# Altium schematic symbol library FERRITE BEAD CHIP.SchLib: 1 symbol
Pins are listed as number, name and electrical type; pins without a type are passive.

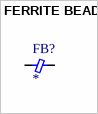
[diagram p0: symbol FERRITE BEAD]

## FERRITE BEAD
designator FB?
Manufacturer: *; Manufacturer Part: *; Value: *; Package: *; ComponentLink1Description: Datasheet; ComponentLink1URL: https://www.murata.com/products/productdata/8796738650142/ENFA0003.pdf; Impedance: *
footprint FB_CHIP_0201
footprint FB_CHIP_0402
footprint FB_CHIP_0603
footprint FB_CHIP_0805
footprint FB_CHIP_1206
pins: 1, 2